# EAGLE library part MPT17 (library pluggable_terminal_blocks)
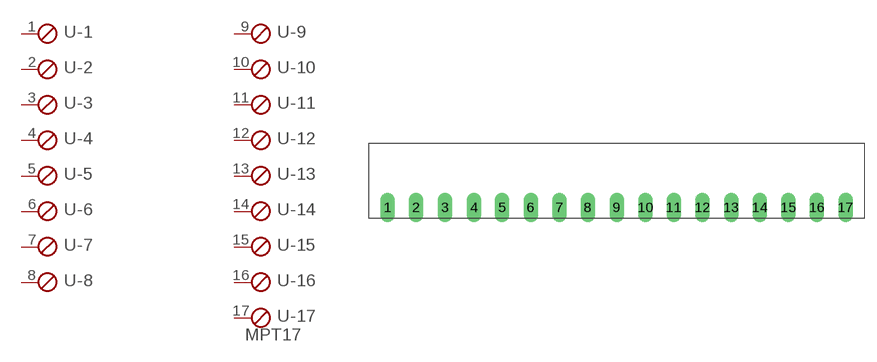
[diagram p10: symbol with the pads of 17POL35; footprint 17POL35]

Designator prefix -; gates -1=SKB -2=SKB -3=SKB -4=SKB -5=SKB -6=SKB -7=SKB -8=SKB -9=SKB -10=SKB -11=SKB -12=SKB -13=SKB -14=SKB -15=SKB -16=SKB -17=SKBV

## MPT17  [17POL35]
1  -1:1  pas
2  -2:1  pas
3  -3:1  pas
4  -4:1  pas
5  -5:1  pas
6  -6:1  pas
7  -7:1  pas
8  -8:1  pas
9  -9:1  pas
10  -10:1  pas
11  -11:1  pas
12  -12:1  pas
13  -13:1  pas
14  -14:1  pas
15  -15:1  pas
16  -16:1  pas
17  -17:1  pas

## Footprint 17POL35 (pad centres in mm)
drill 1.2 long: 1 -28.02,0; 2 -24.53,0; 3 -20.99,0; 4 -17.45,0; 5 -14.01,0; 6 -10.52,0; 7 -6.98,0; 8 -3.54,0; 9 0,0; 10 3.54,0; 11 6.98,0; 12 10.52,0; 13 14.02,0; 14 17.52,0; 15 21.02,0; 16 24.52,0; 17 28.02,0